# Altium schematic symbol library esp32.SCHLIB: 7 symbols
Pins are listed as number, name and electrical type; pins without a type are passive.

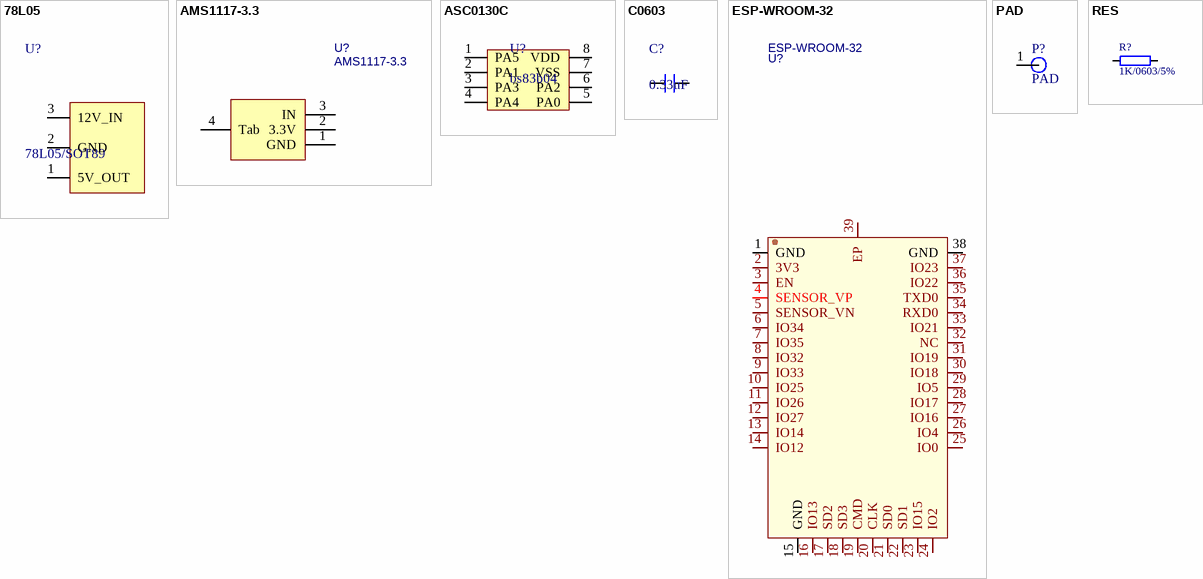
[diagram p0: symbols 78L05 to RES]

## 78L05
designator U?, comment 78L05/SOT89
footprint SOT-89
pins: 1 5V_OUT, 2 GND, 3 12V_IN

## AMS1117-3.3
designator U?
BOM_Manufacturer: SK; Contributor: LCSC; SMT Type: Extend; BOM_Supplier: LCSC; BOM_Supplier Part: C165482; BOM_Manufacturer Part: AMS1117-3.3; BOM_LCSC Assembly: Yes; spicePre: U; spiceSymbolName: AMS1117-3.3_C165482
footprint SOT-223_L6.5-W3.5-P2.30-LS7.0-BR
pins: 1 GND, 2 3.3V, 3 IN, 4 Tab

## ASC0130C
designator U?, comment bs83b04
footprint SOP8 - duplicate - duplicate
pins: 1 PA5, 2 PA1, 3 PA3, 4 PA4, 5 PA0, 6 PA2, 7 VSS, 8 VDD

## C0603
designator C?, comment 0.33uF
footprint C0603
pins: 1, 2

## ESP-WROOM-32
designator U?
BOM_Manufacturer: ESPRESSIF; BOM_Supplier: LCSC; BOM_Manufacturer Part: ESP-WROOM-32; BOM_Supplier Part: C95209; spicePre: U; spiceSymbolName: ESP-WROOM-32
footprint ESP-WROOM-32
pins: 1 GND, 2 3V3, 3 EN, 4 SENSOR_VP, 5 SENSOR_VN, 6 IO34, 7 IO35, 8 IO32, 9 IO33, 10 IO25, 11 IO26, 12 IO27, 13 IO14, 14 IO12, 15 GND, 16 IO13, 17 SD2, 18 SD3, 19 CMD, 20 CLK, 21 SD0, 22 SD1, 23 IO15, 24 IO2, 25 IO0, 26 IO4, 27 IO16, 28 IO17, 29 IO5, 30 IO18, 31 IO19, 32 NC, 33 IO21, 34 RXD0, 35 TXD0, 36 IO22, 37 IO23, 38 GND, 39 EP

## PAD
designator P?
footprint PAD
pins: 1

## RES
designator R?, comment 1K/0603/5%
footprint R0603
pins: 1, 2